# Altium footprint library PcbLib1.PcbLib: 3 footprints
Each footprint in its own frame and in the unit in brackets; x right, y up, seen from the top. Pads: shape width x height; smd on the part's side, far side on the other; paste and mask are expansions set on the pad; w line width, h text height; cw(c..) or ccw(c..) is an arc to the next point about the centre after c.
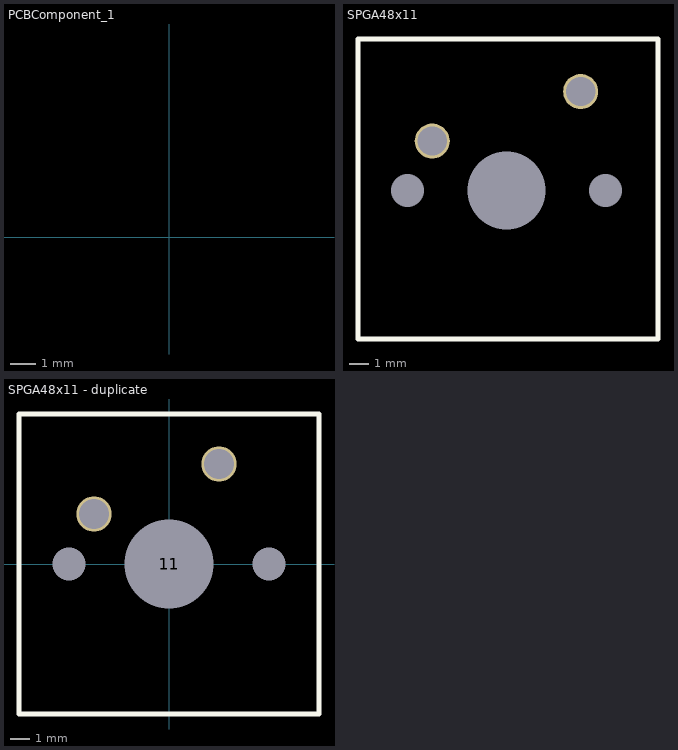
[diagram p0: the footprints below, top view; thin cyan lines are the x and y axes]

## PCBComponent_1 [mil]
Multi-Layer:
  circle w10: c100,200 r29.53
  circle w10: c200,0 r33.46
  circle w10: c-150,100 r29.53
  circle w10: c-200,0 r33.46
  circle w10: c0,0 r78.74

## SPGA48x11 [mm]
pads (5):
  round 1.524 hole 1.7: ""(7.62,11.43) ""(17.78,11.43)
  round 1.8 hole 1.5: ""(8.89,13.97) ""(16.51,16.51)
  round 1.524 hole 4: ""(12.7,11.43)
Top Overlay:
  lines w0.254: 5.08,3.81 20.48,3.81 20.48,19.21 5.08,19.21 5.08,3.81
Multi-Layer:
  circle w0.254: c12.7,11.43 r2
  circle w0.254: c7.62,11.43 r0.85
  circle w0.254: c17.78,11.43 r0.85

## SPGA48x11 - duplicate [mm]
pads (5):
  round 1.27 hole 4.5: 11(0,0)
  round 1.27 hole 1.7: ""(-5.08,0)
  round 1.8 hole 1.5: ""(-3.81,2.54) ""(2.54,5.08)
  oval 0.85x1.27 hole 1.7: ""(5.08,0)
Top Overlay:
  lines w0.254: -7.62,-7.62 -7.62,7.62 7.62,7.62 7.62,-7.62 -7.62,-7.62
3D body "MX1A-E1NW--3DModel-STEP-56544.STEP": height 15.24, standoff -3.3, extent -7.747,-8.097 7.747,8.097